# Altium schematic symbol library CerCapacitor.Schlib: 1 symbol
Pins are listed as number, name and electrical type; pins without a type are passive.

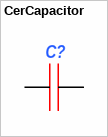
[diagram p0: symbol CerCapacitor]

## CerCapacitor
designator C?
Неполярный конденсатор
pins: 1, 2